# Altium schematic symbol library RK-1412G.SchLib: 6 symbols
Pins are listed as number, name and electrical type; pins without a type are passive.

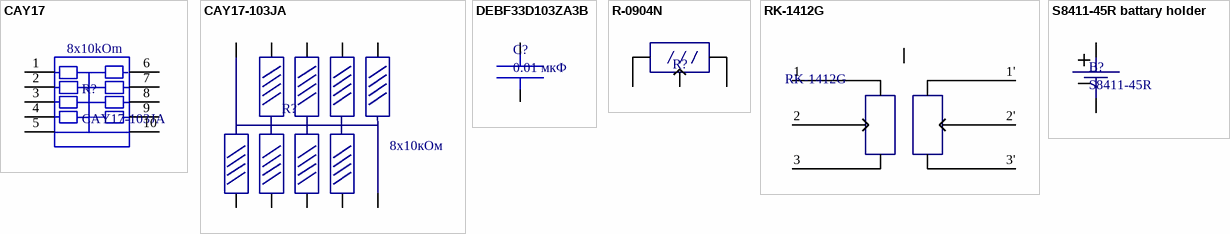
[diagram p0: symbols CAY17 to S8411-45R battary holder]

## CAY17
designator R?, comment CAY17-103JA
footprint CAY17-103JALF
pins: 1, 2, 3, 4, 5, 6, 7, 8, 9, 10
text: 8x10kOm

## CAY17-103JA
designator R?, comment CAY17-103JA 8x10кОм  (value not drawn)
Power Rating per Resistor @ 70 °C: 0.0625 W; Package Power Rating @ 70 °C: 0.250 W; Max. Working Voltage: 25V; Tolerance: 5%; R: 8x10кОм
pins: 1, 2, 3, 4, 5, 6, 7, 8, 9, 10

## DEBF33D103ZA3B
designator C?, comment 0.01 мкФ
Hight voltage ceramic hatch cap; Voltage: 2кВ; Cap: 0.01 мкФ
footprint DEBF33D103ZA3B
pins: 1, 2

## R-0904N
designator R?  (value not drawn)
R-0904N-A100K resistor 500omh-100komh; Max value: 100кОм; Min value: 500Ом; Rated power: 50mW; Tolerance: 20%; Rot.angle: 280 +- 10
footprint R-0904N (R-0904N-A100K (РП1-74), L25KQ 100 кОм, Резистор переменный)
pins: 1, 2, 3

## RK-1412G
designator RK-1412G, comment RK-1412G-A100K  (value not drawn)
Resistance: 0-100 кОм; Rated power: 50 мВт; Operation voltage (AC only): 50В; Total rot.angle: 300
footprint RK-1412G
pins: 1, 1', 2, 2', 3, 3', 4

## S8411-45R battary holder
designator B?, comment S8411-45R
footprint S8411-45R (holder from 1220 battary)
pins: 1, 2